# Altium integrated library 10 uF Electrolytic thru-hole capacitor.IntLib: 1 symbol
Pins are listed as number, name and electrical type; pins without a type are passive.

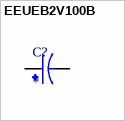
[diagram p0: symbol EEUEB2V100B]

## EEUEB2V100B
designator C?
Aluminum Electrolytic Capacitors - Radial Leaded 10uF 350volts AEC-Q200; MF: Panasonic; MP: EEU-EB2V100B; Price: None; Check_prices: https://www.snapeda.com/parts/EEU-EB2V100B/Panasonic/view-part/?ref=eda; SnapEDA_Link: https://www.snapeda.com/parts/EEU-EB2V100B/Panasonic/view-part/?ref=snap; Availability: In Stock; Value: *; Package: RADIAL-2 Panasonic
footprint CAPPRD500W60D1000H2000
pins: N, P